# Altium footprint library FN_1.PcbLib: 1 footprints
Each footprint in its own frame and in the unit in brackets; x right, y up, seen from the top. Pads: shape width x height; smd on the part's side, far side on the other; paste and mask are expansions set on the pad; w line width, h text height; cw(c..) or ccw(c..) is an arc to the next point about the centre after c.
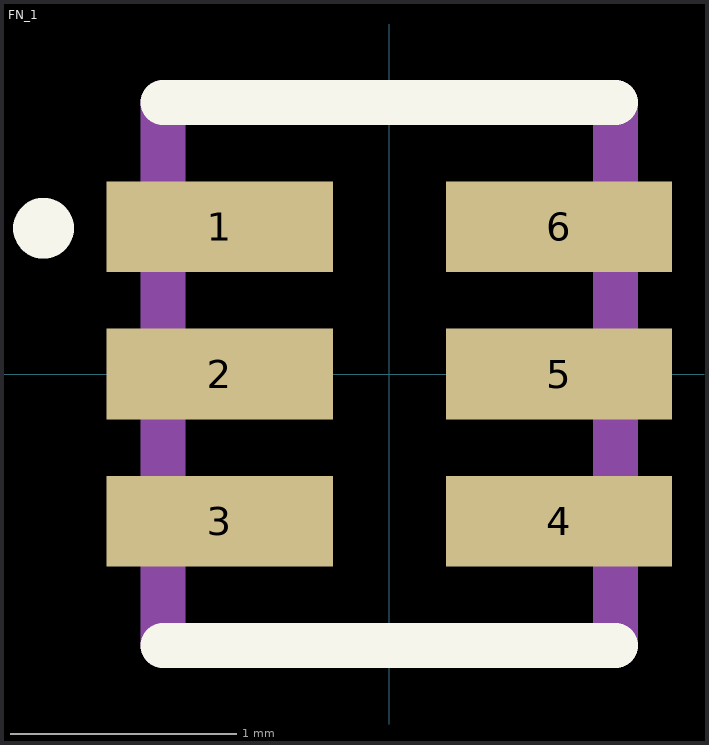
[diagram p0: the footprint, top view; thin cyan lines are the x and y axes]

## FN_1 [mm]
pads (6):
  rect 1x0.4 smd: 1(-0.75,0.65) 2(-0.75,0) 3(-0.75,-0.65) 4(0.75,-0.65) 5(0.75,0) 6(0.75,0.65)
Top Overlay:
  circle w0.2: c-1.528,0.644 r0.034
  lines w0.2: -1,-1.2 1,-1.2 ; -1,1.2 1,1.2
Mechanical 15:
  lines w0.2: -1,-1.2 1,-1.2 1,1.2 -1,1.2 -1,-1.2